# Altium footprint library SN74141N.PcbLib: 2 footprints
Each footprint in its own frame and in the unit in brackets; x right, y up, seen from the top. Pads: shape width x height; smd on the part's side, far side on the other; paste and mask are expansions set on the pad; w line width, h text height; cw(c..) or ccw(c..) is an arc to the next point about the centre after c.
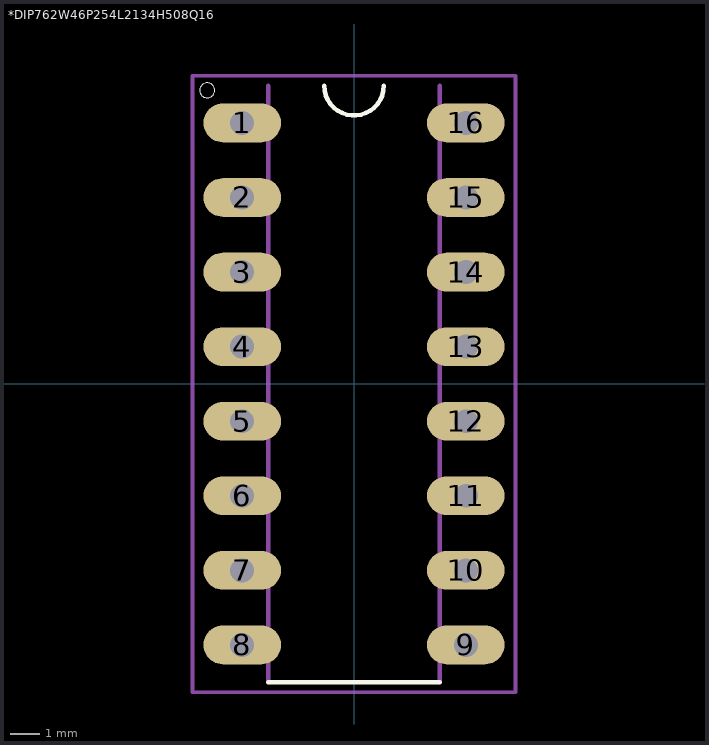
[diagram p0: the footprints below, top view; thin cyan lines are the x and y axes]

## *DIP762W46P254L2134H508Q16 [mil]
pads (16):
  oval 104x52 hole 32: 1(-150,350) 2(-150,250) 3(-150,150) 4(-150,50) 5(-150,-50) 6(-150,-150) 7(-150,-250) 8(-150,-350) 9(150,-350) 10(150,-250) 11(150,-150) 12(150,-50) 13(150,50) 14(150,150) 15(150,250) 16(150,350)
Top Overlay:
  circle w0: c-196.85,393.7 r10
  lines w6: -115,-400 115,-400 ; -40,400 ccw(c0,400) 40,400
Mechanical 13:
  lines w6: -115,-400 -115,400 -115,-400 ; 115,-400 115,400 115,-400
Mechanical 15:
  lines w5: -216.54,-413.39 -216.54,413.39 216.54,413.39 216.54,-413.39 -216.54,-413.39

## PCBComponent_1 [mil]